# EAGLE library part 4X4_USB (library debauer_modules)
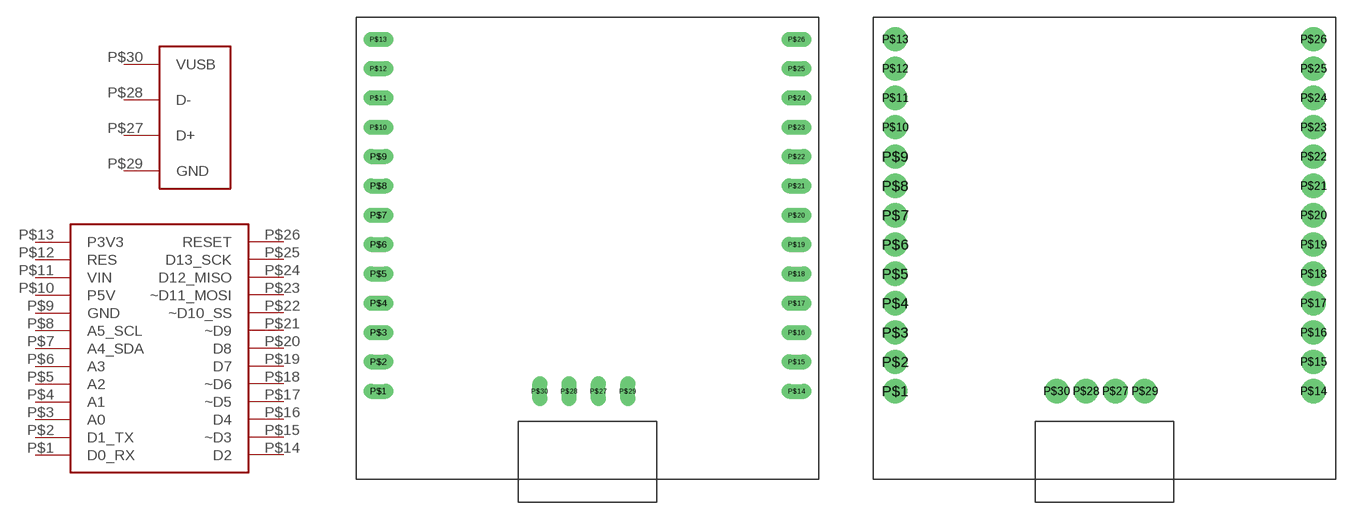
[diagram p4: symbol with the pads of 4X4_USB; footprints 4X4_USB, 4X4_USB_BIG_HOLES]

Designator prefix -; gates G$1=4X4 G$2=4X4_USB

## 4X4_USBSMALL  [4X4_USB]
P$1  G$1:D0_RX
P$2  G$1:D1_TX
P$3  G$1:A0
P$4  G$1:A1
P$5  G$1:A2
P$6  G$1:A3
P$7  G$1:A4_SDA
P$8  G$1:A5_SCL
P$9  G$1:GND
P$10  G$1:P5V
P$11  G$1:VIN
P$12  G$1:RES
P$13  G$1:P3V3
P$14  G$1:D2
P$15  G$1:~D3
P$16  G$1:D4
P$17  G$1:~D5
P$18  G$1:~D6
P$19  G$1:D7
P$20  G$1:D8
P$21  G$1:~D9
P$22  G$1:~D10_SS
P$23  G$1:~D11_MOSI
P$24  G$1:D12_MISO
P$25  G$1:D13_SCK
P$26  G$1:RESET
P$27  G$2:D+
P$28  G$2:D-
P$29  G$2:GND
P$30  G$2:VUSB

## 4X4_USBBIG  [4X4_USB_BIG_HOLES]
Pads as for 4X4_USB

## Footprint 4X4_USB (pad centres in mm)
drill 0.8 long: P$1 1.905,7.62; P$2 1.905,10.16; P$3 1.905,12.7; P$4 1.905,15.24; P$5 1.905,17.78; P$6 1.905,20.32; P$7 1.905,22.86; P$8 1.905,25.4; P$9 1.905,27.94; P$10 1.905,30.48; P$11 1.905,33.02; P$12 1.905,35.56; P$13 1.905,38.1; P$14 38.1,7.62; P$15 38.1,10.16; P$16 38.1,12.7; P$17 38.1,15.24; P$18 38.1,17.78; P$19 38.1,20.32; P$20 38.1,22.86; P$21 38.1,25.4; P$22 38.1,27.94; P$23 38.1,30.48; P$24 38.1,33.02; P$25 38.1,35.56; P$26 38.1,38.1; P$27 20.955,7.62; P$28 18.415,7.62; P$29 23.495,7.62; P$30 15.875,7.62

## Footprint 4X4_USB_BIG_HOLES (pad centres in mm)
drill 1.4: P$1 1.905,7.62; P$2 1.905,10.16; P$3 1.905,12.7; P$4 1.905,15.24; P$5 1.905,17.78; P$6 1.905,20.32; P$7 1.905,22.86; P$8 1.905,25.4; P$9 1.905,27.94; P$10 1.905,30.48; P$11 1.905,33.02; P$12 1.905,35.56; P$13 1.905,38.1; P$14 38.1,7.62; P$15 38.1,10.16; P$16 38.1,12.7; P$17 38.1,15.24; P$18 38.1,17.78; P$19 38.1,20.32; P$20 38.1,22.86; P$21 38.1,25.4; P$22 38.1,27.94; P$23 38.1,30.48; P$24 38.1,33.02; P$25 38.1,35.56; P$26 38.1,38.1; P$27 20.955,7.62; P$28 18.415,7.62; P$29 23.495,7.62; P$30 15.875,7.62